# Altium schematic symbol library SN74LVC125APWR.Schlib: 1 symbol
Pins are listed as number, name and electrical type; pins without a type are passive.

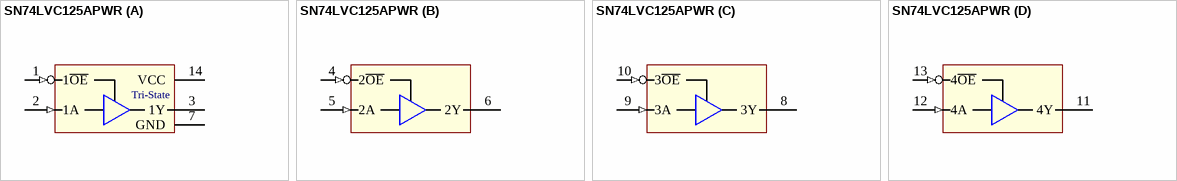
[diagram p0: symbol SN74LVC125APWR]

## SN74LVC125APWR
designator U?, comment Tri-State Buffer
Buffer, Non-Inverting 4 Element 1 Bit per Element 3-State Output 14-TSSOP
footprint 14-TSSOP
part A pins: 1 1~{OE} (in), 2 1A (in), 3 1Y, 7 GND, 14 VCC
part B pins: 4 2~{OE} (in), 5 2A (in), 6 2Y
part C pins: 8 3Y, 9 3A (in), 10 3~{OE} (in)
part D pins: 11 4Y, 12 4A (in), 13 4~{OE} (in)
part A text: Tri-State